# EAGLE library part POWER.TO.MCU.MAIN.BOARD (library LinnesLab-Connectors)
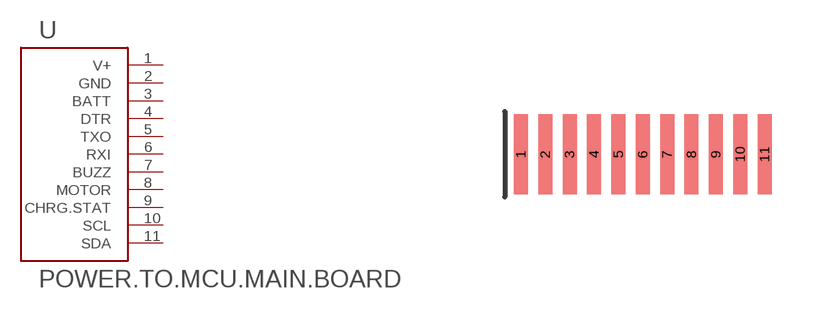
[diagram p17: symbol with the pads of POWER.TO.MCU.MAIN.BOARD; footprint POWER.TO.MCU.MAIN.BOARD]

Designator prefix -

## POWER.TO.MCU.MAIN.BOARD  [POWER.TO.MCU.MAIN.BOARD]
1  V+
2  GND
3  BATT
4  DTR
5  TXO
6  RXI
7  BUZZ
8  MOTOR
9  CHRG.STAT
10  SCL
11  SDA

## Footprint POWER.TO.MCU.MAIN.BOARD (pad centres in mm)
smd 0.351 x 2: 1 0,0; 2 0.61,0; 3 1.219,0; 4 1.829,0; 5 2.438,0; 6 3.048,0; 7 3.658,0; 8 4.267,0; 9 4.877,0; 10 5.486,0; 11 6.096,0